# EAGLE library part XCR3128XL_CS (library m-pad)
Xilinx's XCR3128XL 128 Macrocell CPLD Features: Low power 3.3V 128 macrocell CPLD 6.0 ns pin-to-pin logic delays System frequencies up to 175 MHz 128 macrocells with 3,000 usable gates Available in small footprint packages -144-pin TQFP (108 user I/O pins) - 144-ball CS BGA (108 user I/O) - 100-pin VQFP (84 user I/O) Optimized for 3.3V systems - Ultra low power operation - 5V tolerant I/O pins with 3.3V core supply - Advanced 0.35 micron five layer metal EEPROM process - Fast Zero Power? (FZP) CMOS design technology - 3.3V PCI electrical specification compatible outputs (no internal clamp diode on any input or I/O) Advanced system features - In-system programming - Input registers - Predictable timing model - Up to 23 available clocks per function block - Excellent pin retention during design changes - Full IEEE Standard 1149.1 boundary-scan (JTAG) - Four global clocks - Eight product term control terms per function block Fast ISP programming times Port Enable pin for additional I/O 2.7V to 3.6V supply voltage at industrial temperature range Programmable slew rate control per output Security bit prevents unauthorized access Refer to XPLA3 family data sheet (DS012) for architecture description Description: The XCR3128XL is a 3.3V 128 macrocell CPLD targeted at power sensitive designs that require leading edge programmable logic solutions. A total of eight function blocks provide 3,000 usable gates. Pin-to-pin propagation delays are 6.0 ns with a maximum system frequency of 175 MHz. Please send any comments to: messi@users.sourceforge.net
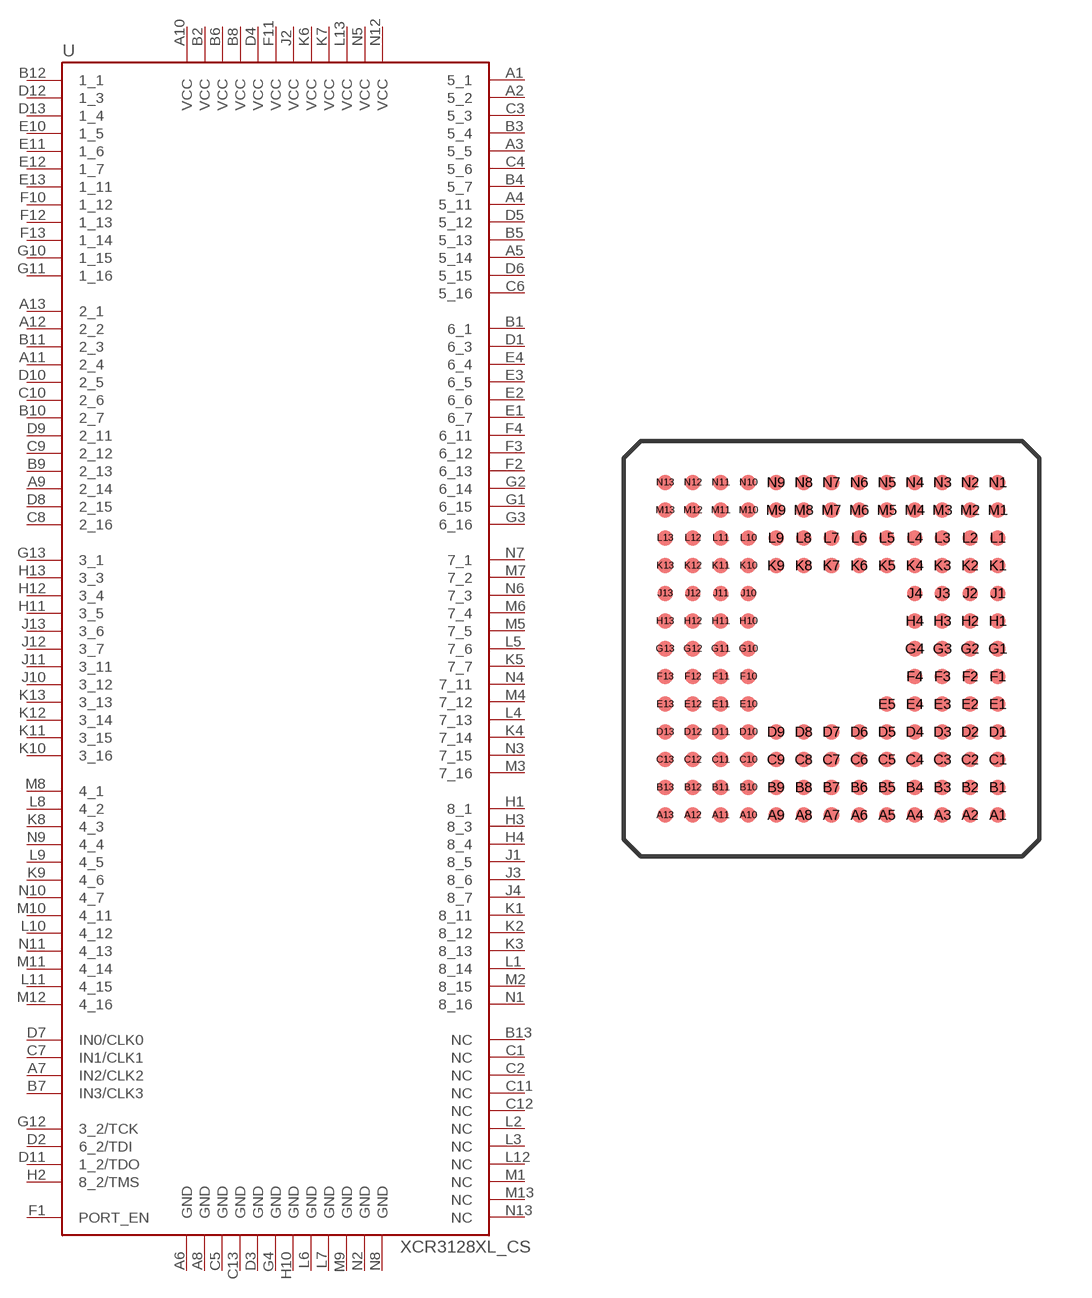
[diagram p32: symbol with the pads of CS144; footprint CS144]

Designator prefix U

## XCR3128XL_CS  [CS144]
A1  5_1
A2  5_2
A3  5_5
A4  5_11
A5  5_14
A6  GND  pwr
A7  IN2/CLK2
A8  GND  pwr
A9  2_14
A10  VCC  pwr
A11  2_4
A12  2_2
A13  2_1
B1  6_1
B2  VCC  pwr
B3  5_4
B4  5_7
B5  5_13
B6  VCC  pwr
B7  IN3/CLK3
B8  VCC  pwr
B9  2_13
B10  2_7
B11  2_3
B12  1_1
B13  NC  nc
C1  NC  nc
C2  NC  nc
C3  5_3
C4  5_6
C5  GND  pwr
C6  5_16
C7  IN1/CLK1
C8  2_16
C9  2_12
C10  2_6
C11  NC  nc
C12  NC  nc
C13  GND  pwr
D1  6_3
D2  6_2/TDI
D3  GND  pwr
D4  VCC  pwr
D5  5_12
D6  5_15
D7  IN0/CLK0
D8  2_15
D9  2_11
D10  2_5
D11  1_2/TDO
D12  1_3
D13  1_4
E1  6_7
E2  6_6
E3  6_5
E4  6_4
E10  1_5
E11  1_6
E12  1_7
E13  1_11
F1  PORT_EN  in
F2  6_13
F3  6_12
F4  6_11
F10  1_12
F11  VCC  pwr
F12  1_13
F13  1_14
G1  6_15
G2  6_14
G3  6_16
G4  GND  pwr
G10  1_15
G11  1_16
G12  3_2/TCK
G13  3_1
H1  8_1
H2  8_2/TMS
H3  8_3
H4  8_4
H10  GND  pwr
H11  3_5
H12  3_4
H13  3_3
J1  8_5
J2  VCC  pwr
J3  8_6
J4  8_7
J10  3_12
J11  3_11
J12  3_7
J13  3_6
K1  8_11
K2  8_12
K3  8_13
K4  7_14
K5  7_7
K6  VCC  pwr
K7  VCC  pwr
K8  4_3
K9  4_6
K10  3_16
K11  3_15
K12  3_14
K13  3_13
L1  8_14
L2  NC  nc
L3  NC  nc
L4  7_13
L5  7_6
L6  GND  pwr
L7  GND  pwr
L8  4_2
L9  4_5
L10  4_12
L11  4_15
L12  NC  nc
L13  VCC  pwr
M1  NC  nc
M2  8_15
M3  7_16
M4  7_12
M5  7_5
M6  7_4
M7  7_2
M8  4_1
M9  GND  pwr
M10  4_11
M11  4_14
M12  4_16
M13  NC  nc
N1  8_16
N2  GND  pwr
N3  7_15
N4  7_11
N5  VCC  pwr
N6  7_3
N7  7_1
N8  GND  pwr
N9  4_4
N10  4_7
N11  4_13
N12  VCC  pwr
N13  NC  nc

## Footprint CS144 (pad centres in mm)
Chip Scale BGA (CS144/CSG144) Package - 144-ball CS BGA (108 user I/O) - Pad diameter: 0.45 mm - Pitch: 0.8mm Please send any comments to: messi@users.sourceforge.net
smd 0.45 x 0.45: A1 4.8,-4.8; A2 4,-4.8; A3 3.2,-4.8; A4 2.4,-4.8; A5 1.6,-4.8; A6 0.8,-4.8; A7 0,-4.8; A8 -0.8,-4.8; A9 -1.6,-4.8; A10 -2.4,-4.8; A11 -3.2,-4.8; A12 -4,-4.8; A13 -4.8,-4.8; B1 4.8,-4; B2 4,-4; B3 3.2,-4; B4 2.4,-4; B5 1.6,-4; B6 0.8,-4; B7 0,-4; B8 -0.8,-4; B9 -1.6,-4; B10 -2.4,-4; B11 -3.2,-4; B12 -4,-4; B13 -4.8,-4; C1 4.8,-3.2; C2 4,-3.2; C3 3.2,-3.2; C4 2.4,-3.2; C5 1.6,-3.2; C6 0.8,-3.2; C7 0,-3.2; C8 -0.8,-3.2; C9 -1.6,-3.2; C10 -2.4,-3.2; C11 -3.2,-3.2; C12 -4,-3.2; C13 -4.8,-3.2; D1 4.8,-2.4; D2 4,-2.4; D3 3.2,-2.4; D4 2.4,-2.4; D5 1.6,-2.4; D6 0.8,-2.4; D7 0,-2.4; D8 -0.8,-2.4; D9 -1.6,-2.4; D10 -2.4,-2.4; D11 -3.2,-2.4; D12 -4,-2.4; D13 -4.8,-2.4; E1 4.8,-1.6; E2 4,-1.6; E3 3.2,-1.6; E4 2.4,-1.6; E5 1.6,-1.6; E10 -2.4,-1.6; E11 -3.2,-1.6; E12 -4,-1.6; E13 -4.8,-1.6; F1 4.8,-0.8; F2 4,-0.8; F3 3.2,-0.8; F4 2.4,-0.8; F10 -2.4,-0.8; F11 -3.2,-0.8; F12 -4,-0.8; F13 -4.8,-0.8; G1 4.8,0; G2 4,0; G3 3.2,0; G4 2.4,0; G10 -2.4,0; G11 -3.2,0; G12 -4,0; G13 -4.8,0; H1 4.8,0.8; H2 4,0.8; H3 3.2,0.8; H4 2.4,0.8; H10 -2.4,0.8; H11 -3.2,0.8; H12 -4,0.8; H13 -4.8,0.8; J1 4.8,1.6; J2 4,1.6; J3 3.2,1.6; J4 2.4,1.6; J10 -2.4,1.6; J11 -3.2,1.6; J12 -4,1.6; J13 -4.8,1.6; K1 4.8,2.4; K2 4,2.4; K3 3.2,2.4; K4 2.4,2.4; K5 1.6,2.4; K6 0.8,2.4; K7 0,2.4; K8 -0.8,2.4; K9 -1.6,2.4; K10 -2.4,2.4; K11 -3.2,2.4; K12 -4,2.4; K13 -4.8,2.4; L1 4.8,3.2; L2 4,3.2; L3 3.2,3.2; L4 2.4,3.2; L5 1.6,3.2; L6 0.8,3.2; L7 0,3.2; L8 -0.8,3.2; L9 -1.6,3.2; L10 -2.4,3.2; L11 -3.2,3.2; L12 -4,3.2; L13 -4.8,3.2; M1 4.8,4; M2 4,4; M3 3.2,4; M4 2.4,4; M5 1.6,4; M6 0.8,4; M7 0,4; M8 -0.8,4; M9 -1.6,4; M10 -2.4,4; M11 -3.2,4; M12 -4,4; M13 -4.8,4; N1 4.8,4.8; N2 4,4.8; N3 3.2,4.8; N4 2.4,4.8; N5 1.6,4.8; N6 0.8,4.8; N7 0,4.8; N8 -0.8,4.8; N9 -1.6,4.8; N10 -2.4,4.8; N11 -3.2,4.8; N12 -4,4.8; N13 -4.8,4.8